# Altium schematic symbol library ESD122DMXR.SchLib: 1 symbol
Pins are listed as number, name and electrical type; pins without a type are passive.

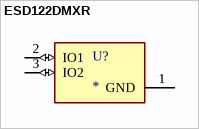
[diagram p0: symbol ESD122DMXR]

## ESD122DMXR
designator U?
2-channel ESD protection diode for USB Type-C and HDMI 2.0 3-X2SON -40 to 125; MF: {'manufacturer': u'Texas Instruments'}; MP: ESD122DMXR; Package: None; Price: None; Value: *; Availability: Unavailable
footprint IC_ESD122DMXR
pins: 1 GND (power), 2 IO1 (io), 3 IO2 (io)